# Altium footprint library Sampler_DIOT.PcbLib: 109 footprints (part 5 of 7)
Each footprint in its own frame and in the unit in brackets; x right, y up, seen from the top. Pads: shape width x height; smd on the part's side, far side on the other; paste and mask are expansions set on the pad; w line width, h text height; cw(c..) or ccw(c..) is an arc to the next point about the centre after c.
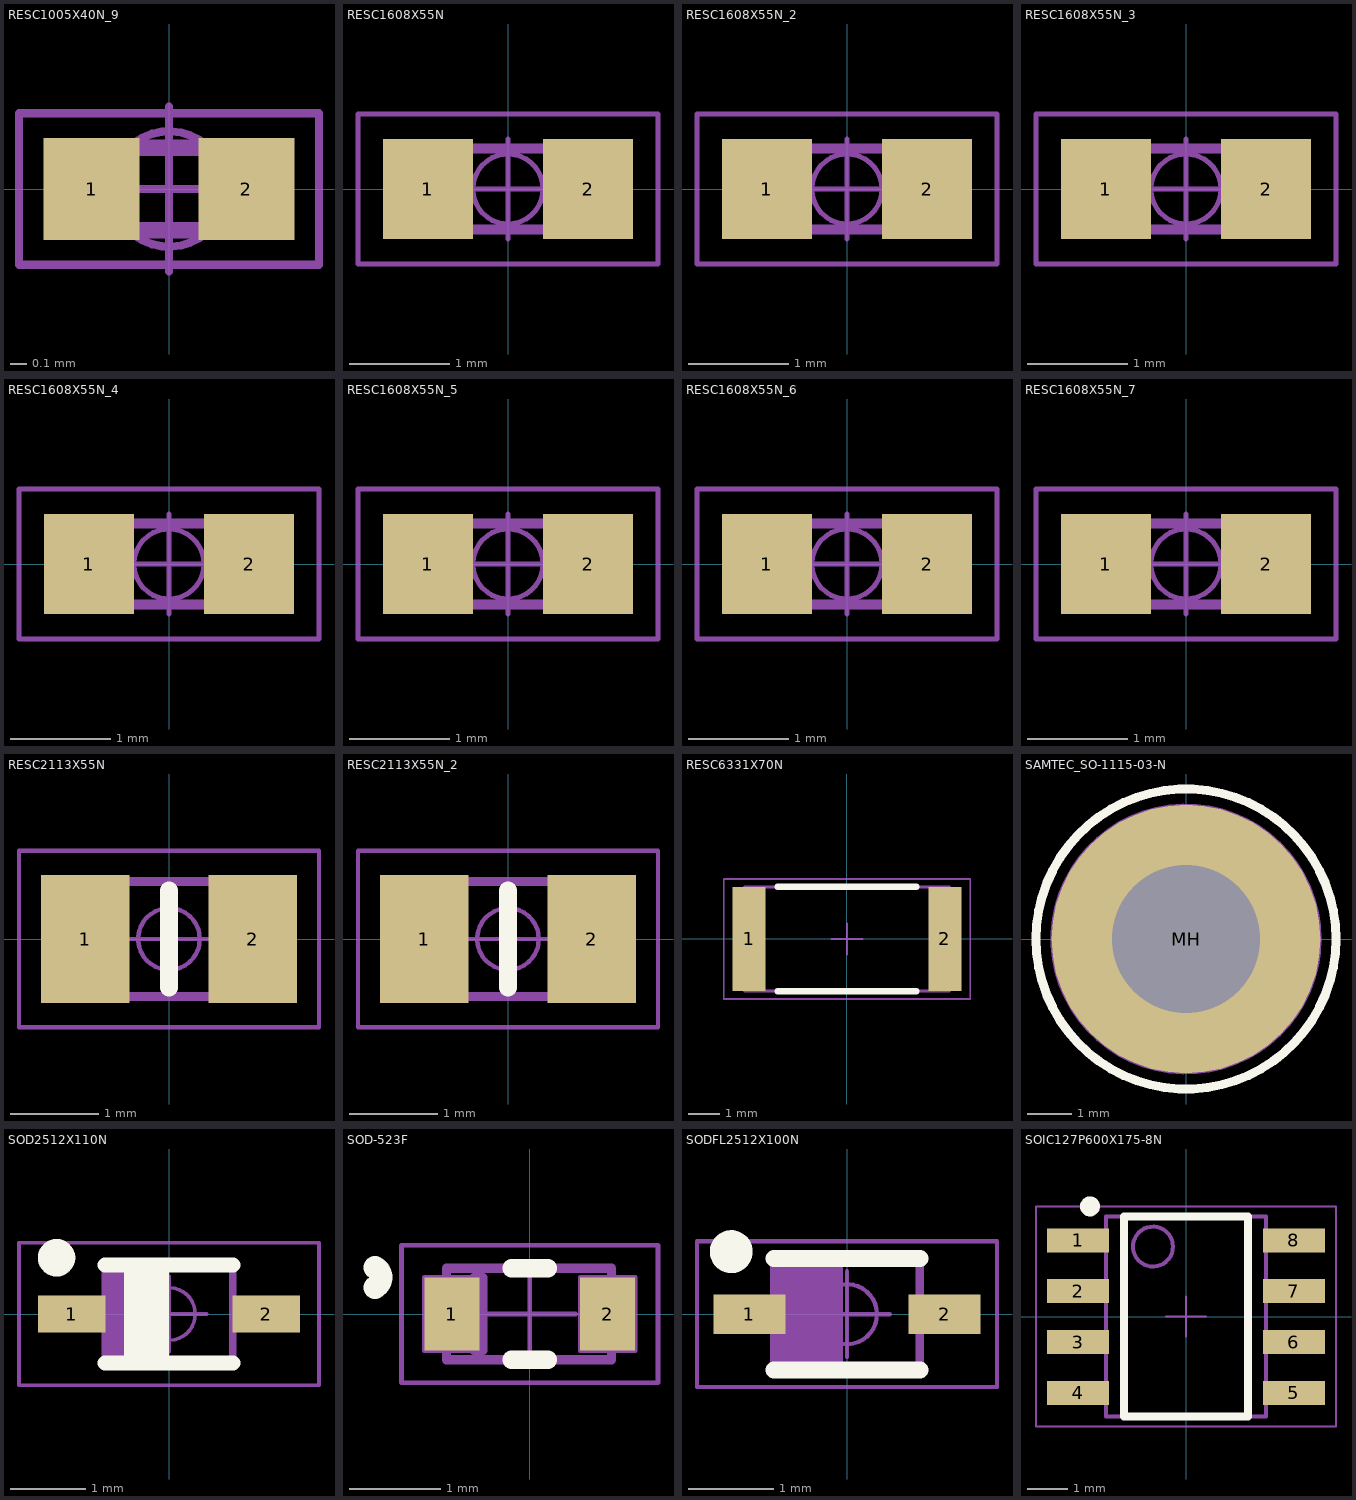
[diagram p4: the footprints below, top view; thin cyan lines are the x and y axes]

## RESC1005X40N_9 [mm]
pads (2):
  rect 0.58x0.62 smd: 1(-0.47,0) 2(0.47,0)
Top Assembly:
  lines w0.1: -0.5,-0.25 0.5,-0.25 0.5,0.25 -0.5,0.25 -0.5,-0.25
Top Courtyard:
  circle w0.05: c0,0 r0.35
  lines w0.05: -0.5,0 0.5,0 ; 0,-0.5 0,0.5 ; -0.91,-0.46 0.91,-0.46 0.91,0.46 -0.91,0.46 -0.91,-0.46
3D body "RESC1005X40N.stp": height 0.4, standoff 0, extent -0.525,-0.275 0.525,0.275

## RESC1608X55N [mm]
pads (2):
  rect 0.9x1 smd: 1(-0.8,0) 2(0.8,0)
Top Assembly:
  lines w0.1: -0.8,-0.405 -0.8,0.405 0.8,0.405 0.8,-0.405 -0.8,-0.405
Top Courtyard:
  circle w0.05: c0,0 r0.35
  lines w0.05: -0.5,0 0.5,0 ; 0,-0.5 0,0.5 ; -1.5,-0.75 1.5,-0.75 1.5,0.75 -1.5,0.75 -1.5,-0.75
3D body "RESC1608X55N.stp": height 0.55, standoff 0, extent -0.875,-0.475 0.875,0.475

## RESC1608X55N_2 [mm]
pads (2):
  rect 0.9x1 smd: 1(-0.8,0) 2(0.8,0)
Top Assembly:
  lines w0.1: -0.8,-0.405 0.8,-0.405 0.8,0.405 -0.8,0.405 -0.8,-0.405
Top Courtyard:
  circle w0.05: c0,0 r0.35
  lines w0.05: -0.5,0 0.5,0 ; 0,-0.5 0,0.5 ; -1.5,-0.75 -1.5,0.75 1.5,0.75 1.5,-0.75 -1.5,-0.75
3D body "RESC1608X55N.stp": height 0.55, standoff 0, extent -0.875,-0.475 0.875,0.475

## RESC1608X55N_3 [mm]
pads (2):
  rect 0.9x1 smd: 1(-0.8,0) 2(0.8,0)
Top Assembly:
  lines w0.1: -0.8,-0.405 -0.8,0.405 0.8,0.405 0.8,-0.405 -0.8,-0.405
Top Courtyard:
  circle w0.05: c0,0 r0.35
  lines w0.05: -0.5,0 0.5,0 ; 0,-0.5 0,0.5 ; -1.5,-0.75 1.5,-0.75 1.5,0.75 -1.5,0.75 -1.5,-0.75
3D body "RESC1608X55N.stp": height 0.55, standoff 0, extent -0.875,-0.475 0.875,0.475

## RESC1608X55N_4 [mm]
pads (2):
  rect 0.9x1 smd: 1(-0.8,0) 2(0.8,0)
Top Assembly:
  lines w0.1: -0.8,-0.405 -0.8,0.405 0.8,0.405 0.8,-0.405 -0.8,-0.405
Top Courtyard:
  circle w0.05: c0,0 r0.35
  lines w0.05: -0.5,0 0.5,0 ; 0,-0.5 0,0.5 ; -1.5,-0.75 1.5,-0.75 1.5,0.75 -1.5,0.75 -1.5,-0.75
3D body "RESC1608X55N.stp": height 0.55, standoff 0, extent -0.875,-0.475 0.875,0.475

## RESC1608X55N_5 [mm]
pads (2):
  rect 0.9x1 smd: 1(-0.8,0) 2(0.8,0)
Top Assembly:
  lines w0.1: -0.8,-0.405 -0.8,0.405 0.8,0.405 0.8,-0.405 -0.8,-0.405
Top Courtyard:
  circle w0.05: c0,0 r0.35
  lines w0.05: -0.5,0 0.5,0 ; 0,-0.5 0,0.5 ; -1.5,-0.75 1.5,-0.75 1.5,0.75 -1.5,0.75 -1.5,-0.75
3D body "RESC1608X55N.stp": height 0.55, standoff 0, extent -0.875,-0.475 0.875,0.475

## RESC1608X55N_6 [mm]
pads (2):
  rect 0.9x1 smd: 1(-0.8,0) 2(0.8,0)
Top Assembly:
  lines w0.1: -0.8,-0.405 -0.8,0.405 0.8,0.405 0.8,-0.405 -0.8,-0.405
Top Courtyard:
  circle w0.05: c0,0 r0.35
  lines w0.05: -0.5,0 0.5,0 ; 0,-0.5 0,0.5 ; -1.5,-0.75 1.5,-0.75 1.5,0.75 -1.5,0.75 -1.5,-0.75
3D body "RESC1608X55N.stp": height 0.55, standoff 0, extent -0.875,-0.475 0.875,0.475

## RESC1608X55N_7 [mm]
pads (2):
  rect 0.9x1 smd: 1(-0.8,0) 2(0.8,0)
Top Assembly:
  lines w0.1: -0.8,-0.405 -0.8,0.405 0.8,0.405 0.8,-0.405 -0.8,-0.405
Top Courtyard:
  circle w0.05: c0,0 r0.35
  lines w0.05: -0.5,0 0.5,0 ; 0,-0.5 0,0.5 ; -1.5,-0.75 1.5,-0.75 1.5,0.75 -1.5,0.75 -1.5,-0.75
3D body "RESC1608X55N.stp": height 0.55, standoff 0, extent -0.875,-0.475 0.875,0.475

## RESC2113X55N [mm]
pads (2):
  rect 1x1.45 smd: 1(-0.95,0) 2(0.95,0)
Top Overlay:
  lines w0.2: 0,-0.55 0,0.55
Top Assembly:
  lines w0.1: -1.025,-0.65 -1.025,0.65 1.025,0.65 1.025,-0.65 -1.025,-0.65
Top Courtyard:
  circle w0.05: c0,0 r0.35
  lines w0.05: -0.5,0 0.5,0 ; 0,-0.5 0,0.5 ; -1.7,-1 -1.7,1 1.7,1 1.7,-1 -1.7,-1
3D body "RESC2113X55N.stp": height 0.55, standoff 0, extent -1,-0.625 1,0.625

## RESC2113X55N_2 [mm]
pads (2):
  rect 1x1.45 smd: 1(-0.95,0) 2(0.95,0)
Top Overlay:
  lines w0.2: 0,-0.55 0,0.55
Top Assembly:
  lines w0.1: -1.025,-0.65 -1.025,0.65 1.025,0.65 1.025,-0.65 -1.025,-0.65
Top Courtyard:
  circle w0.05: c0,0 r0.35
  lines w0.05: -0.5,0 0.5,0 ; 0,-0.5 0,0.5 ; -1.7,-1 -1.7,1 1.7,1 1.7,-1 -1.7,-1
3D body "RESC2113X55N.stp": height 0.55, standoff 0, extent -1,-0.625 1,0.625

## RESC6331X70N [mm]
pads (2):
  rect 1.05x3.3 smd: 1(-3.1,0) 2(3.1,0)
Top Overlay:
  lines w0.2: -2.2,-1.65 2.2,-1.65 ; -2.2,1.65 2.2,1.65
Top Assembly:
  lines w0.1: -3.25,-1.65 -3.25,1.65 3.25,1.65 3.25,-1.65 -3.25,-1.65
Top Courtyard:
  lines w0.05: -0.5,0 0.5,0 ; 0,-0.5 0,0.5 ; -3.9,-1.9 -3.9,1.9 3.9,1.9 3.9,-1.9 -3.9,-1.9
3D body "RESC6331X70N.stp": height 0.7, standoff 0, extent -3.25,-1.65 3.25,1.65

## SAMTEC_SO-1115-03-N [mm]
pads (1):
  round 6 hole 3.3: MH(0,0)
Top Overlay:
  circle w0.2: c0,0 r3.35
Mechanical 8:
  circle w0.05: c0,0 r1.65
  circle w0.05: c0,0 r3
  lines w0.05: -0.5,0 0,0 ; 0,-0.5 0,0 ; 0,0.5 0,0 ; 0.5,0 0,0
Top Assembly:
  circle w0.1: c0,0 r1.5
  lines w0.1: -2.38,-1.374 0,-2.748 2.38,-1.374 2.38,1.374 0,2.748 -2.38,1.374 -2.38,-1.374
3D body "SAMTEC_SO-1115-03-N.stp": height 11.15, standoff -4.76, extent -2.748,-2.38 2.748,2.38

## SOD2512X110N [mm]
pads (2):
  rect 0.9x0.5 smd: 1(-1.3,0) 2(1.3,0)
Top Overlay:
  circle w0.25: c-1.5,0.75 r0.125
  lines w0.2: -0.85,-0.65 0.85,-0.65 ; -0.85,0.65 0.85,0.65 ; -0.5,-0.65 -0.5,0.65 ; -0.3,-0.65 -0.3,0.65 ; -0.1,-0.65 -0.1,0.65
Top Assembly:
  lines w0.1: -0.75,-0.625 -0.75,0.625 ; -0.65,-0.625 -0.65,0.625 ; -0.55,-0.625 -0.55,0.625 ; -0.45,-0.625 -0.45,0.625 ; -0.35,-0.625 -0.35,0.625 ; -0.25,-0.625 -0.25,0.625 ; -0.15,-0.625 -0.15,0.625 ; -0.85,-0.625 -0.85,0.625 0.85,0.625 0.85,-0.625 -0.85,-0.625
Top Courtyard:
  circle w0.05: c0,0 r0.35
  lines w0.05: -0.5,0 0.5,0 ; 0,-0.5 0,0.5 ; -2,-0.95 -2,0.95 2,0.95 2,-0.95 -2,-0.95
3D body "SOD2512X110N(SOD-323).stp": height 1.1, standoff 0, extent -1.35,-0.675 1.35,0.675

## SOD-523F [mm]
pads (2):
  rect 0.6x0.8 smd: 1(-0.85,0) 2(0.85,0)
Top Overlay:
  lines w0.2: -0.2,-0.5 0.2,-0.5 ; -0.2,0.5 0.2,0.5
  lines w0.25: -1.688,0.291 ccw(c-1.75,0.4) -1.688,0.509
Mechanical 8:
  lines w0.05: -0.5,0 0,0 ; 0,-0.5 0,0 ; 0,0.5 0,0 ; 0.5,0 0,0 ; -1.15,-0.4 -1.15,0.4 ; -1.15,-0.4 -0.55,-0.4 -0.55,0.4 -1.15,0.4 ; -1.15,-0.4 -0.85,0 -1.15,0.4 ; 1.15,-0.4 1.15,0.4 ; 1.15,-0.4 0.55,-0.4 0.55,0.4 1.15,0.4 ; 1.15,-0.4 0.85,0 1.15,0.4
Top Assembly:
  lines w0.1: -0.609,-0.4 -0.509,-0.4 ; -0.609,-0.4 -0.609,0.4 ; -0.609,-0.4 -0.509,-0.4 ; -0.609,-0.4 -0.609,0.4 ; -0.609,0.4 -0.509,0.4 ; -0.609,0.4 -0.509,0.4 ; -0.509,-0.4 -0.509,0.4 ; -0.509,-0.4 -0.509,0.4 ; -0.909,-0.5 0.891,-0.5 0.891,0.5 -0.909,0.5 -0.909,-0.5
Top Courtyard:
  lines w0.05: -1.4,-0.75 -1.4,0.75 1.4,0.75 1.4,-0.75 -1.4,-0.75
3D body "SOD-523F.stp": height 0.85, standoff 0, extent -0.909,-0.5 0.891,0.5

## SODFL2512X100N [mm]
pads (2):
  rect 0.84x0.46 smd: 1(-1.14,0) 2(1.14,0)
Top Overlay:
  circle w0.25: c-1.35,0.73 r0.125
  lines w0.2: -0.85,-0.65 0.85,-0.65 ; -0.85,0.65 0.85,0.65
Top Assembly:
  region: -0.85,-0.625 -0.05,-0.625 -0.05,0.625 -0.85,0.625
  lines w0.1: -0.85,-0.625 0.85,-0.625 0.85,0.625 -0.85,0.625 -0.85,-0.625
Top Courtyard:
  circle w0.05: c0,0 r0.35
  lines w0.05: -0.5,0 0.5,0 ; 0,-0.5 0,0.5 ; -1.75,-0.85 1.75,-0.85 1.75,0.85 -1.75,0.85 -1.75,-0.85
3D body "SODFL2512X100N.stp": height 1, standoff 0, extent -1.35,-0.65 1.35,0.65

## SOIC127P600X175-8N [mm]
pads (8):
  rect 1.55x0.6 smd: 1(-2.7,1.905) 2(-2.7,0.635) 3(-2.7,-0.635) 4(-2.7,-1.905) 5(2.7,-1.905) 6(2.7,-0.635) 7(2.7,0.635) 8(2.7,1.905)
Top Overlay:
  circle w0.25: c-2.4,2.755 r0.125
  lines w0.2: -1.55,-2.5 -1.55,2.5 1.55,2.5 1.55,-2.5 -1.55,-2.5
Top Assembly:
  circle w0.1: c-0.825,1.75 r0.5
  lines w0.1: -2,-2.5 -2,2.5 2,2.5 2,-2.5 -2,-2.5
Top Courtyard:
  lines w0.05: -0.5,0 0.5,0 ; 0,-0.5 0,0.5 ; -3.75,-2.75 -3.75,2.75 3.75,2.75 3.75,-2.75 -3.75,-2.75
3D body "SOIC127P600X175-8N.stp": height 1.75, standoff 0, extent -3.1,-2.5 3.1,2.5